# Altium schematic symbol library JLCPCB_DROPOUT_REGULATORS_SMD.SchLib: 2 symbols
Pins are listed as number, name and electrical type; pins without a type are passive.

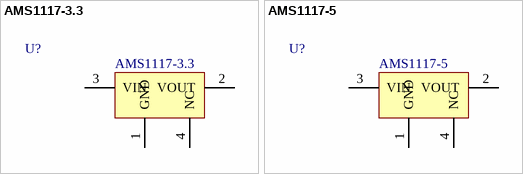
[diagram p0: symbols AMS1117-3.3 to AMS1117-5]

## AMS1117-3.3
designator U?, comment MFR_Part#: AMS1117-3.3  (hidden comment: basic)
Fixed 15V 3.3V 1.3V @ 800mA SOT-223 Dropout Regulators RoHS; Manufacturer: Advanced Monolithic Systems; V(IN): 14V; I(max): 1A; ComponentLink1Description: Datasheet; ComponentLink1URL: https://datasheet.lcsc.com/lcsc/1811142212_Advanced-Monolithic-Systems-AMS1117-3-3_C6186.pdf; LCSC_Part#: C6186; Packages: SOT-223; V(OUT): 3.3V; V(drop): 1.3V
footprint SOT223 (SOT223, 4-Leads, Body 6,51x7,00mm (avg), Pitch 2,29mm, IPC Medium Density)
pins: 1 GND (power), 2 VOUT (power), 3 VIN (power), 4 NC

## AMS1117-5
designator U?, comment MFR_Part#: AMS1117-5  (hidden comment: basic)
Fixed 15V 5V 1.3V @ 800mA SOT-223 Dropout Regulators RoHS; Manufacturer: Advanced Monolithic Systems; V(IN): 14V; I(max): 1A; ComponentLink1Description: Datasheet; ComponentLink1URL: https://datasheet.lcsc.com/lcsc/1811142212_Advanced-Monolithic-Systems-AMS1117-3-3_C6186.pdf; LCSC_Part#: C6187; Packages: SOT-223; V(OUT): 5V; V(drop): 1.3V
footprint SOT223 (SOT223, 4-Leads, Body 6,51x7,00mm (avg), Pitch 2,29mm, IPC Medium Density)
pins: 1 GND (power), 2 VOUT (power), 3 VIN (power), 4 NC